# Altium footprint library BasicSAMD21.PcbLib: 20 footprints (part 2 of 2)
Each footprint in its own frame and in the unit in brackets; x right, y up, seen from the top. Pads: shape width x height; smd on the part's side, far side on the other; paste and mask are expansions set on the pad; w line width, h text height; cw(c..) or ccw(c..) is an arc to the next point about the centre after c.
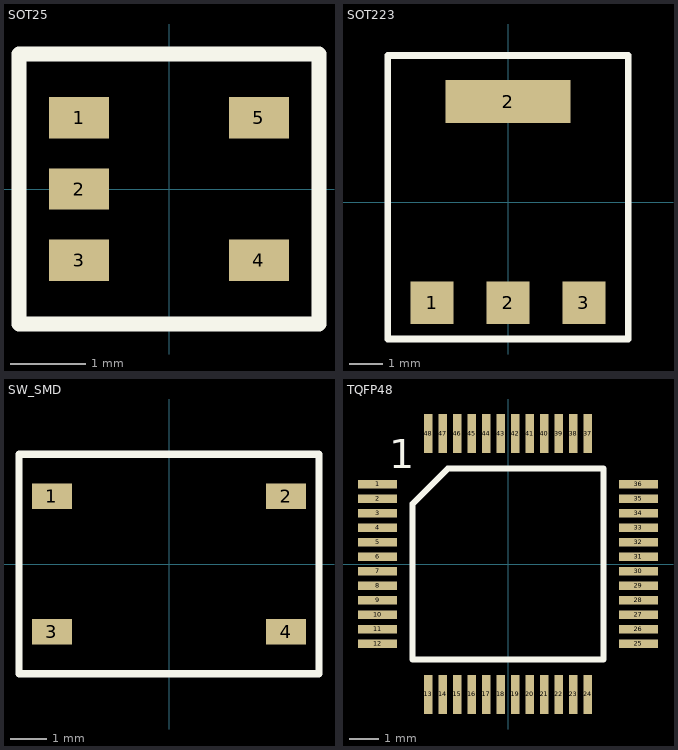
[diagram p1: the footprints below, top view; thin cyan lines are the x and y axes]

## SOT25 [mm]
pads (5):
  rect 0.8x0.55 smd: 1(-1.2,0.95) 2(-1.2,0) 3(-1.2,-0.95) 4(1.2,-0.95) 5(1.2,0.95)
Top Overlay:
  lines w0.2: -2,-1.8 2,-1.8 2,1.8 -2,1.8 -2,-1.8
3D body "User Library-sot25.step": height 1.16, standoff 0.01, extent -1.2,-1.5 1.2,1.5

## SOT223 [mm]
pads (4):
  rect 1.3x1.3 smd: 1(-2.3,-3.05) 2(0,-3.05) 3(2.3,-3.05)
  rect 3.8x1.3 smd: 2(0,3.05)
Top Overlay:
  lines w0.2: -3.65,-4.15 -3.65,-3.05 -3.65,4.45 3.65,4.45 3.65,-4.15 -3.65,-4.15
Mechanical 29:
  text ".Designator" at -2.7,-0.4 h1.52
3D body "User Library-AMS1117.step": height 1.87, standoff 0.01, extent -3.25,-3.599 3.25,3.4

## SW_SMD [mm]
pads (4):
  rect 1.1x0.7 smd: 1(-3.2,1.85) 2(3.2,1.85) 3(-3.2,-1.85) 4(3.2,-1.85)
Top Overlay:
  lines w0.2: -4.1,-3 -4.1,3 4.1,3 4.1,-3 -4.1,-3
3D body "User Library-4x4_SMD_Switch.step": height 1.51, standoff 0.01, extent -3.2,-2.6 3.2,2.6

## TQFP48 [mm]
pads (48):
  rect 1.35x0.29 smd: 1(-4.5,2.75) 2(-4.5,2.25) 3(-4.5,1.75) 4(-4.5,1.25) 5(-4.5,0.75) 6(-4.5,0.25) 7(-4.5,-0.25) 8(-4.5,-0.75) 9(-4.5,-1.25) 10(-4.5,-1.75) 11(-4.5,-2.25) 12(-4.5,-2.75) 25(4.5,-2.75) 26(4.5,-2.25) 27(4.5,-1.75) 28(4.5,-1.25) 29(4.5,-0.75) 30(4.5,-0.25) 31(4.5,0.25) 32(4.5,0.75) 33(4.5,1.25) 34(4.5,1.75) 35(4.5,2.25) 36(4.5,2.75)
  rect 0.29x1.35 smd: 13(-2.75,-4.5) 14(-2.25,-4.5) 15(-1.75,-4.5) 16(-1.25,-4.5) 17(-0.75,-4.5) 18(-0.25,-4.5) 19(0.25,-4.5) 20(0.75,-4.5) 21(1.25,-4.5) 22(1.75,-4.5) 23(2.25,-4.5) 24(2.75,-4.5) 37(2.75,4.5) 38(2.25,4.5) 39(1.75,4.5) 40(1.25,4.5) 41(0.75,4.5) 42(0.25,4.5) 43(-0.25,4.5) 44(-0.75,4.5) 45(-1.25,4.5) 46(-1.75,4.5) 47(-2.25,4.5) 48(-2.75,4.5)
Top Overlay:
  lines w0.2: -3.29,-3.29 3.29,-3.29 3.29,3.29 -2.08,3.29 -3.29,2.08 -3.29,-3.29
  text "1" at -4.1,3.3 h1
Mechanical 29:
  text ".Designator" at -1.8,-0.7 h1.52
3D body "User Library-TQFP48.step": height 1.1, standoff 0, extent -4.509,-4.509 4.509,4.509